# Altium footprint library Conectors.PcbLib: 137 footprints (part 6 of 9)
Each footprint in its own frame and in the unit in brackets; x right, y up, seen from the top. Pads: shape width x height; smd on the part's side, far side on the other; paste and mask are expansions set on the pad; w line width, h text height; cw(c..) or ccw(c..) is an arc to the next point about the centre after c.
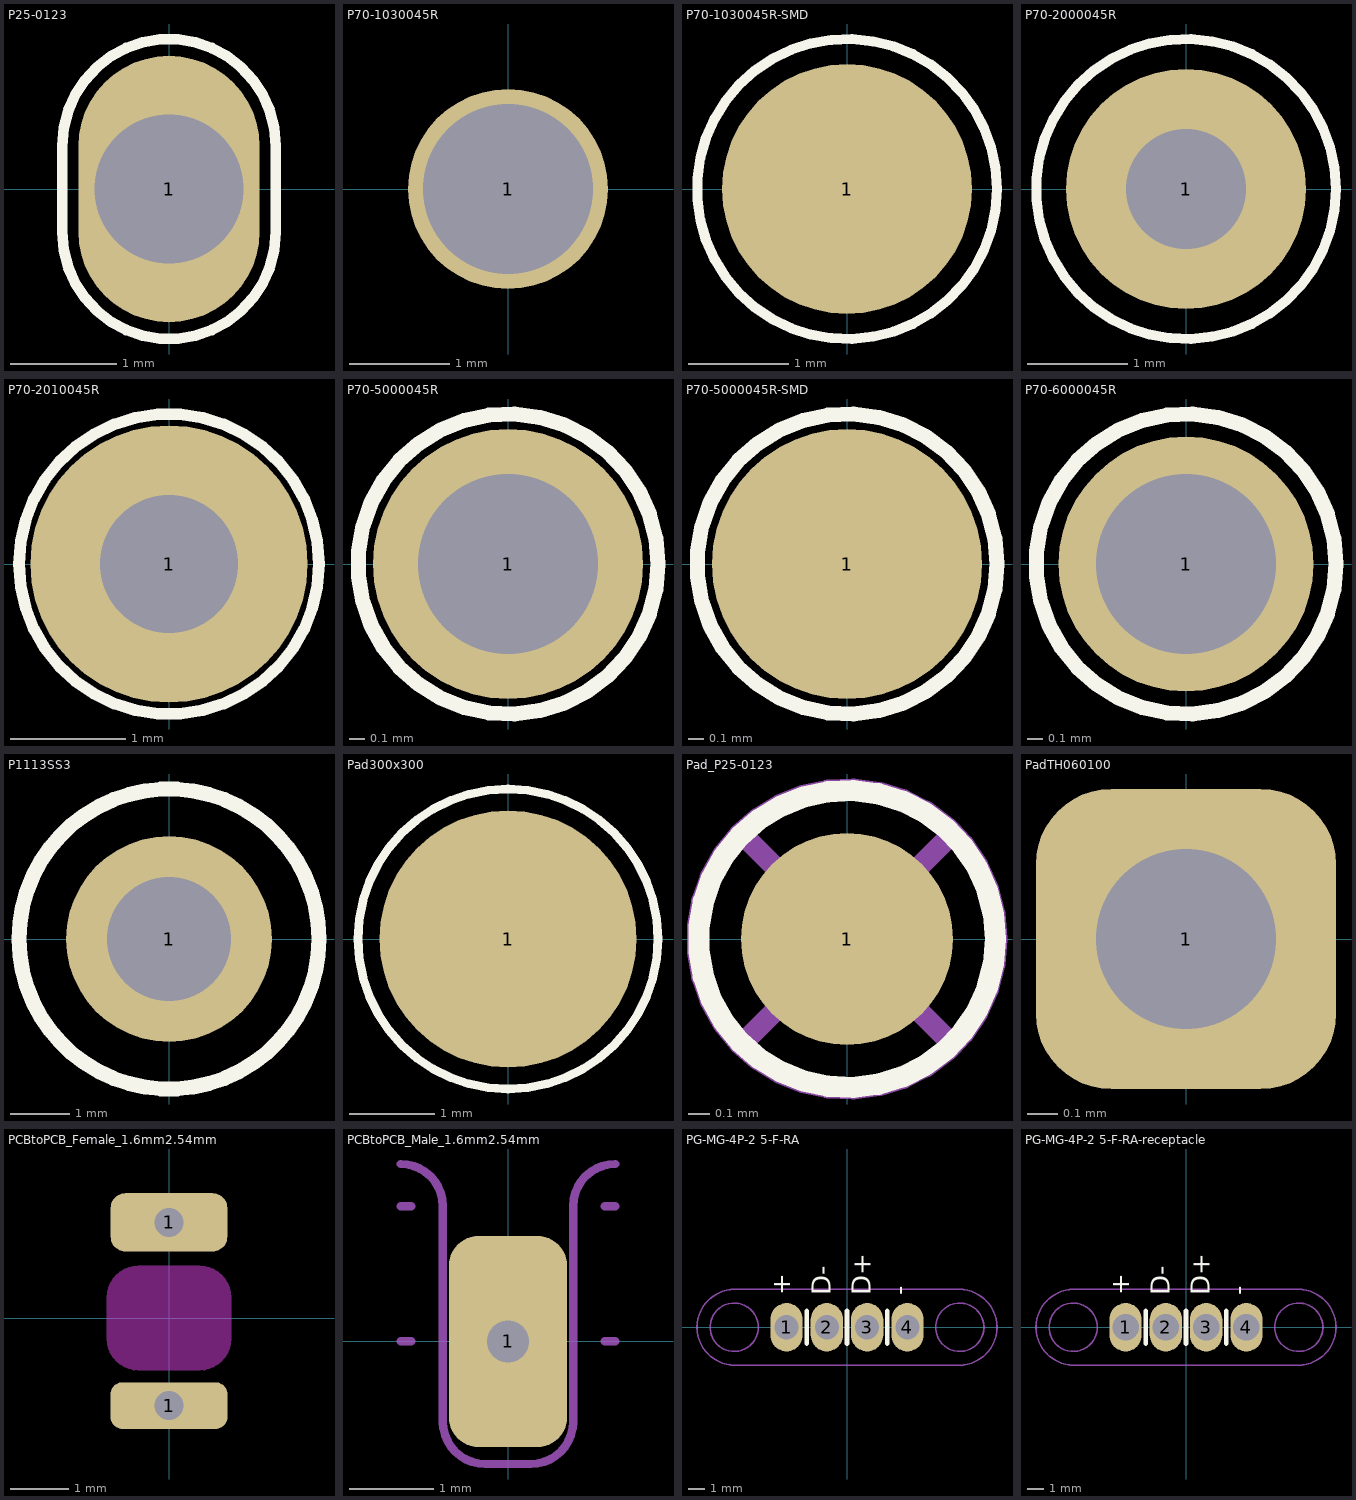
[diagram p5: the footprints below, top view; thin cyan lines are the x and y axes]

## P25-0123 [mm]
pads (1):
  oval 1.7x2.5 hole 1.4: 1(0,0)
Top Overlay:
  lines w0.1: -1,-0.406 ccw(c0,-0.406) 1,-0.406 1,0.406 ccw(c0,0.406) -1,0.406 -1,-0.406
3D body "Pogopin_P25-0123 v2.step": height 21.5, standoff -3.2, extent -0.68,-0.675 0.68,0.675

## P70-1030045R [mm]
pads (1):
  round 2 / inner round 2.5 / far side round 2.5 hole 1.7: 1(0,0)
Bottom Overlay:
  circle w0.1: c0,0 r1.5
3D body "pogo pin P70-1030045R.STEP": height 1, standoff -6.3, extent -0.915,-0.915 0.915,0.915

## P70-1030045R-SMD [mm]
pads (1):
  round 2.5 smd: 1(0,0)
Top Overlay:
  circle w0.1: c0,0 r1.5
3D body "pogo pin P70-1030045R.STEP": height 7.3, standoff 0, extent -0.915,-0.915 0.915,0.915

## P70-2000045R [mm]
pads (1):
  round 2.4 / inner round 2.4 / far side round 1.8 hole 1.2: 1(0,0)
Top Overlay:
  circle w0.1: c0,0 r1.5
3D body: height 0, standoff 0, extent -0.496,-0.499 0.5,0.499
3D body: height 0.4, standoff 0, extent -0.992,-0.998 1,0.998
3D body: height 2.7, standoff 0, extent -0.794,-0.798 0.8,0.799
3D body: height 3.6, standoff 0, extent -0.446,-0.449 0.45,0.449

## P70-2010045R [mm]
pads (1):
  round 2.4 / inner round 2.4 / far side round 1.8 hole 1.2: 1(0,0)
Top Overlay:
  circle w0.1: c0,0 r1.3
3D body "P70-2010045R.STEP": height 5, standoff -1, extent -0.998,-1 0.998,0.992

## P70-5000045R [mm]
pads (1):
  round 1.8 hole 1.2: 1(0,0)
Top Overlay:
  circle w0.1: c0,0 r1
3D body: height -0.45, standoff -0.85, extent -0.744,-0.748 0.75,0.749
3D body: height 0.93, standoff -0.85, extent -0.511,-0.514 0.515,0.514
3D body: height 1.55, standoff -0.85, extent -0.297,-0.299 0.3,0.3

## P70-5000045R-SMD [mm]
height 2.4
pads (1):
  round 1.8 smd: 1(0,0)
Top Overlay:
  circle w0.1: c0,0 r1
3D body: height 0.4, standoff 0, extent -0.744,-0.748 0.75,0.749
3D body: height 1.78, standoff 0, extent -0.511,-0.514 0.515,0.514
3D body: height 2.4, standoff 0, extent -0.297,-0.299 0.3,0.3

## P70-6000045R [mm]
pads (1):
  round 1.7 hole 1.2: 1(0,0)
Top Overlay:
  circle w0.1: c0,0 r1
3D body: height 0, standoff 0, extent -0.496,-0.499 0.5,0.499
3D body: height 0.4, standoff 0, extent -0.744,-0.748 0.75,0.749
3D body: height 1.85, standoff 0, extent -0.565,-0.569 0.57,0.569
3D body: height 2.8, standoff 0, extent -0.173,-0.175 0.175,0.175

## P1113SS3 [mm]
pads (1):
  round 3.5 hole 2.1: 1(0,0)
Top Overlay:
  circle w0.254: c0,0 r2.55
3D body "Pogopin_P1113SS3 v4.step": height 20.98, standoff -6.02, extent -1.275,-1.266 1.275,1.266

## Pad300x300 [mm]
pads (1):
  round 3 smd: 1(0,0)
Top Overlay:
  circle w0.1: c0,0 r1.75

## Pad_P25-0123 [mm]
pads (1):
  round 1 smd: 1(0,0)
Top Overlay:
  circle w0.1: c0,0 r0.7
Mechanical 15:
  circle w0.1: c0,0 r0.707
  lines w0.1: -0.5,-0.5 0.5,0.5 ; -0.5,0.5 0.5,-0.5

## PadTH060100 [mm]
pads (1):
  rrect50% 1x1 hole 0.6: 1(0,0)

## PCBtoPCB_Female_1.6mm2.54mm [mm]
pads (2):
  rrect50% 2x0.8 hole 0.5: 1(0,-1.5)
  rrect50% 2x1 hole 0.5: 1(0,1.64)
Top Overlay:
  text ".Silk" at -1.445,2.557 h2
Keep-Out Layer:
  board cut-out: -1.02,-0.35 -1.02,0.35 -1.02,0.449 -0.944,0.633 -0.803,0.774 -0.619,0.85 -0.52,0.85 0.52,0.85 0.619,0.85 0.803,0.774 0.944,0.633 1.02,0.449 1.02,0.35 1.02,-0.35 1.02,-0.449 0.944,-0.633 0.803,-0.774 0.619,-0.85 0.52,-0.85 -0.52,-0.85 -0.619,-0.85 -0.803,-0.774 -0.944,-0.633 -1.02,-0.449
Keep-Out Layer:
  lines w0.1: -1.02,-0.35 ccw(c-0.52,-0.35) -0.52,-0.85 0.52,-0.85 ccw(c0.52,-0.35) 1.02,-0.35 1.02,0.35 ccw(c0.52,0.35) 0.52,0.85 -0.52,0.85 ccw(c-0.52,0.35) -1.02,0.35 -1.02,-0.35

## PCBtoPCB_Male_1.6mm2.54mm [mm]
pads (1):
  rrect50% 1.4x2.5 hole 0.5: 1(0,0)
Top Overlay:
  text ".Silk" at -1.445,2.382 h2
Mechanical 3:
  lines w0.1: -1.27,0 -1.145,0 ; -1.27,1.6 -1.145,1.6 ; 1.145,0 1.27,0 ; 1.145,1.6 1.27,1.6
Board Shape:
  lines w0.1: -1.27,2.1 cw(c-1.27,1.6) -0.77,1.6 -0.77,-0.95 ccw(c-0.27,-0.95) -0.27,-1.45 0.27,-1.45 ccw(c0.27,-0.95) 0.77,-0.95 0.77,1.6 cw(c1.27,1.6) 1.27,2.1

## PG-MG-4P-2 5-F-RA [mm]
pads (4):
  oval 2x3 / inner round 2 / far side round 2 hole 1.5: 1(-3.75,0) 2(-1.25,0) 3(1.25,0) 4(3.75,0)
Top Overlay:
  lines w0.3: -2.5,-1 -2.5,1 ; 0,-1 0,1 ; 2.5,-1 2.5,1
  text "-" at 4.214,2 h2
  text "D+" at 1.891,2 h2
  text "D-" at -0.609,2 h2
  text "+" at -3.12,2 h2
Mechanical 15:
  circle w0.1: c7,0 r1.5
  circle w0.1: c-7,0 r1.5
  lines w0.1: -6.955,-2.355 cw(c-6.955,0) -6.955,2.355 6.955,2.355 cw(c6.955,0) 6.955,-2.355 -6.955,-2.355
  text "S" at 7.641,-0.509 h2
  text "N" at -6.359,-0.505 h2
3D body: height 4.5, standoff 1.5, extent -8.45,-1.45 -5.55,1.45
3D body: height 4.5, standoff 1.5, extent 5.55,-1.45 8.45,1.45

## PG-MG-4P-2 5-F-RA-receptacle [mm]
pads (4):
  oval 2x3 / inner round 2 / far side oval 2x3 hole 1.65: 1(-3.75,0) 2(-1.25,0) 3(1.25,0) 4(3.75,0)
Top Overlay:
  lines w0.3: -2.5,-1 -2.5,1 ; 0,-1 0,1 ; 2.5,-1 2.5,1
  text "-" at 4.214,2 h2
  text "D+" at 1.891,2 h2
  text "D-" at -0.609,2 h2
  text "+" at -3.12,2 h2
Bottom Overlay:
  lines w0.3: -2.5,-1 -2.5,1 ; 0,-1 0,1 ; 2.5,-1 2.5,1
Mechanical 15:
  circle w0.1: c7,0 r1.5
  circle w0.1: c-7,0 r1.5
  lines w0.1: -6.955,-2.355 cw(c-6.955,0) -6.955,2.355 6.955,2.355 cw(c6.955,0) 6.955,-2.355 -6.955,-2.355
  text "S" at 7.641,-0.509 h2
  text "N" at -6.359,-0.505 h2
3D body: height 4.5, standoff 1.5, extent -8.45,-1.45 -5.55,1.45
3D body: height 4.5, standoff 1.5, extent 5.55,-1.45 8.45,1.45
3D body "0287-0-15-15-16-27-10-0.step": height 1.19, standoff -1.09, extent 2.746,-1.015 4.778,1.002
3D body "0287-0-15-15-16-27-10-0.step": height 1.19, standoff -1.09, extent 0.246,-1.015 2.278,1.002
3D body "0287-0-15-15-16-27-10-0.step": height 1.19, standoff -1.09, extent -2.254,-1.015 -0.222,1.002
3D body "0287-0-15-15-16-27-10-0.step": height 1.19, standoff -1.09, extent -4.754,-1.015 -2.722,1.002